# EAGLE library part 1_CH_TIMER (library 911_circuits)
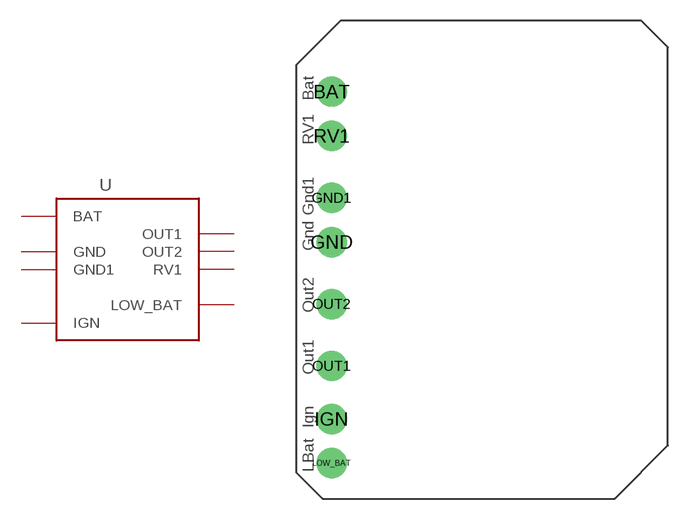
[diagram p0: symbol with the pads of 1_CH_TIMER; footprint 1_CH_TIMER]

Designator prefix U

## 1_CH_TIMER  [1_CH_TIMER]
BAT  BAT
GND  GND
GND1  GND1
IGN  IGN
LOW_BAT  LOW_BAT
OUT1  OUT1
OUT2  OUT2
RV1  RV1

## Footprint 1_CH_TIMER (pad centres in mm)
drill 1.2 pad 2.184: BAT 2.54,29.21; GND 2.54,18.415; GND1 2.54,21.59; IGN 2.54,5.715; LOW_BAT 2.54,2.54; OUT1 2.54,9.525; OUT2 2.54,13.97; RV1 2.54,26.035